# Altium schematic symbol library Res_Advanced_Photonix_PDV-P9002_eec.SchLib: 1 symbol
Pins are listed as number, name and electrical type; pins without a type are passive.

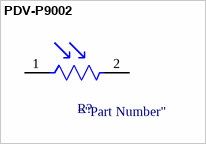
[diagram p0: symbol PDV-P9002]

## PDV-P9002
designator R?  (value not drawn)
pins: 1, 2